# EAGLE library part HLE-110-02-X-DV-BE-A (library HLE-110-02-X-DV-BE-A)
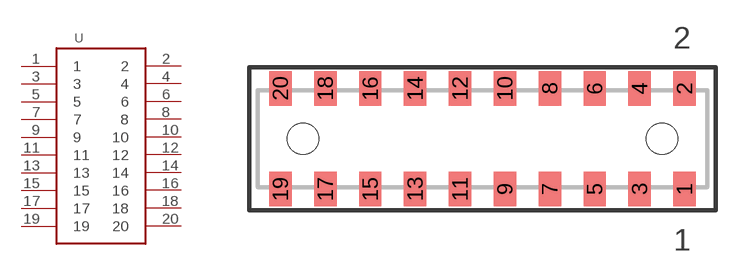
[diagram p0: symbol with the pads of HLE-110-02-X-DV-BE-A; footprint HLE-110-02-X-DV-BE-A]

Designator prefix -

## HLE-110-02-X-DV-BE-A  [HLE-110-02-X-DV-BE-A]
1  1
2  2
3  3
4  4
5  5
6  6
7  7
8  8
9  9
10  10
11  11
12  12
13  13
14  14
15  15
16  16
17  17
18  18
19  19
20  20

## Footprint HLE-110-02-X-DV-BE-A (pad centres in mm)
.100" (2,54mm) Surface Mount, Double Row, Vertical Mount. manufacturer:SAMTEC
smd 1.27 x 1.93: 1 11.43,-2.845; 2 11.43,2.845; 3 8.89,-2.845; 4 8.89,2.845; 5 6.35,-2.845; 6 6.35,2.845; 7 3.81,-2.845; 8 3.81,2.845; 9 1.27,-2.845; 10 1.27,2.845; 11 -1.27,-2.845; 12 -1.27,2.845; 13 -3.81,-2.845; 14 -3.81,2.845; 15 -6.35,-2.845; 16 -6.35,2.845; 17 -8.89,-2.845; 18 -8.89,2.845; 19 -11.43,-2.845; 20 -11.43,2.845
hole 1.778 at -10.16,0
hole 1.778 at 10.16,0